# Altium schematic symbol library MyWatch.SCHLIB: 19 symbols
Pins are listed as number, name and electrical type; pins without a type are passive.

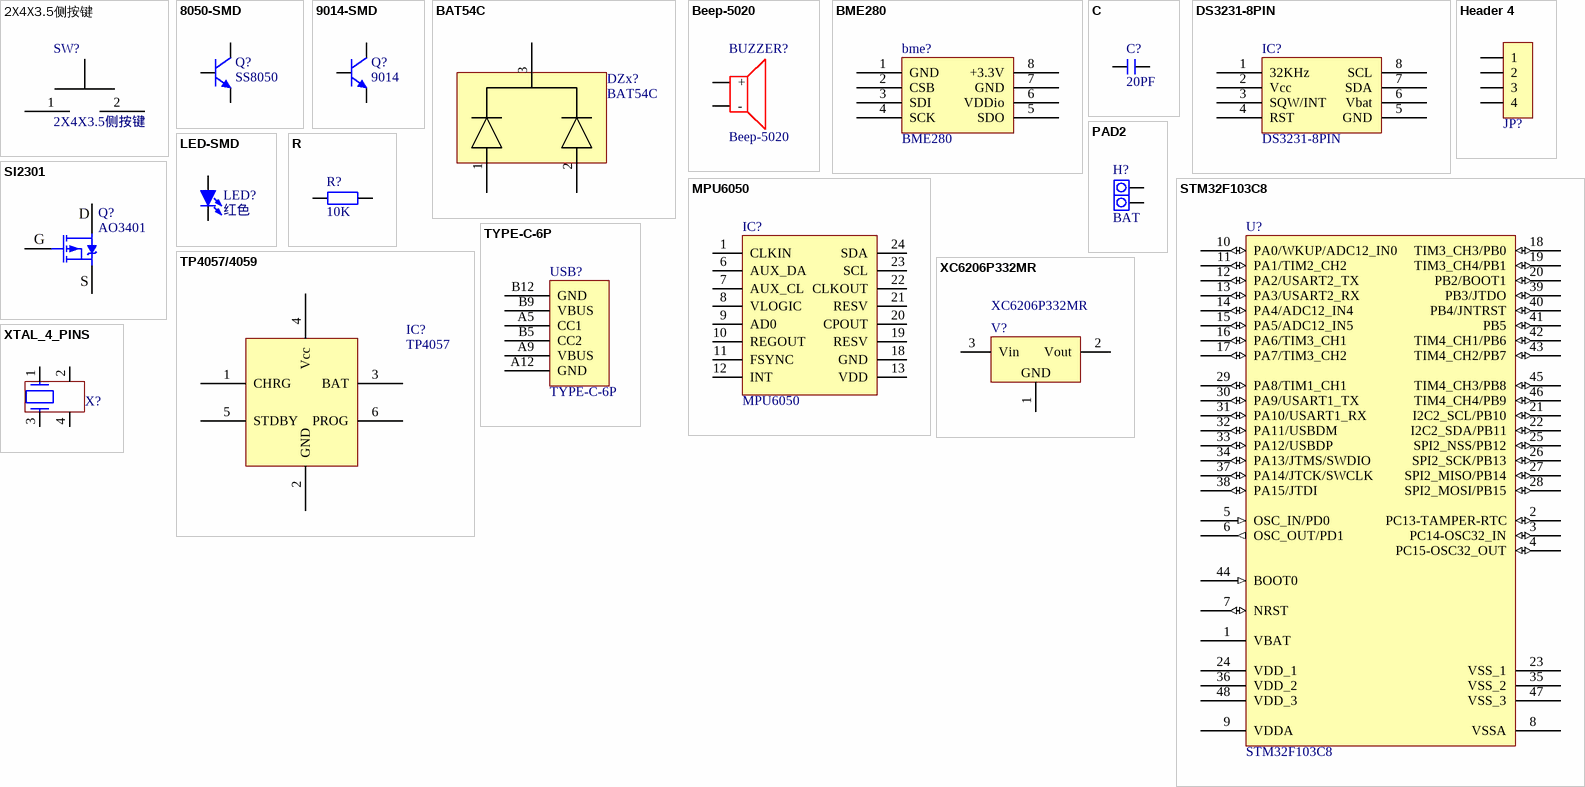
[diagram p0: symbols 2X4X3.5侧按键 to XTAL_4_PINS]

## 2X4X3.5侧按键
designator SW?
footprint 2X4X3.5贴片侧按开关 (1/10W贴片电阻)
pins: 1, 2

## 8050-SMD
designator Q?, comment SS8050
高频放大-NPN型; 版权归属: 源创客; 属性: 40V 1.5A 1W 100MHZ; BOM名称: 高频放大-NPN型; 学习资源: www.ooocke.com
footprint SOT23-3N (3x1.3x1mm(长宽高))
footprint SOT23-3L (3x1.3x1mm(长宽高))
footprint SOT23-3M (3x1.3x1mm(长宽高))
pins: 1 B, 2 E, 3 C

## 9014-SMD
designator Q?, comment 9014
低噪放大-NPN型; 版权归属: 源创客; 属性: 50V 0.1A 0.4W 150MHZ; BOM名称: 低噪放大-NPN型; 学习资源: www.ooocke.com
footprint SOT23-3N (3x1.3x1mm(长宽高))
footprint SOT23-3L (3x1.3x1mm(长宽高))
footprint SOT23-3M (3x1.3x1mm(长宽高))
pins: 1 B, 2 E, 3 C

## BAT54C
designator DZx?
双肖特基，共阴极
footprint SOT23-3N (3x1.3x1mm(长宽高))
pins: 1, 2, 3

## Beep-5020
designator BUZZER?
贴片蜂鸣器5020最小封装
footprint 5020BUZZER
pins: 1 +, 2 -

## BME280
designator bme?
气压，湿度，温度传感器
footprint BME280
pins: 1 GND, 2 CSB, 3 SDI, 4 SCK, 5 SDO, 6 VDDio, 7 GND, 8 +3.3V

## C
designator C?, comment 20PF
无极性贴片电容; 版权归属: 源创客; 材质: X7R; BOM名称: 无极性贴片电容; 学习资源: www.ooocke.com
footprint C0603 (Chip Capacitor, 2-Leads, Body 1.60x0.80mm, IPC Medium Density)
pins: 1, 2

## DS3231-8PIN
designator IC?
footprint SOP8_N (5*6*1.8mm（长宽高）)
pins: 1 32KHz, 2 Vcc, 3 SQW/INT, 4 RST, 5 GND, 6 Vbat, 7 SDA, 8 SCL

## Header 4
designator JP?, comment HDR-1X4  (value not drawn)
4P接插件; 版权归属: 源创客; BOM名称: 4P接插件; 学习资源: www.ooocke.com
footprint XH2.54-WI-4P (接插件，4P)
footprint XH2.54-LI-4P (接插件，4P)
footprint HDR2.54-LI-4P (排针，4脚)
footprint HDR2.54-M-LI-4P (排母，4脚)
footprint HDR2.54-WI-4P (弯脚排针，4脚)
footprint HDR2.54-WS-4P (4P卧式贴片排针2.54)
footprint HDR2.54-Y-LI-4P (圆孔排母，4脚)
footprint HDR2.54-M-WS-4P (4P卧式贴片排母2.54)
footprint KF2510-LI-4P (接插件/2A)
footprint XH2.54-WS-4P (长：15mm，宽：8mm，高：6.1mm)
footprint XH2.54-LS-4P (长：15mm，宽：6mm，高：8.3mm)
footprint KF2EDGK-2.54-LI-4P (长：12.06mm，宽：8.1mm，高：10.1mm)
footprint KF2EDGK-2.54-WI-4P (长：12.06mm，宽：10.1mm，高：8.1mm)
pins: 1, 2, 3, 4

## LED-SMD
designator LED?, comment 红色
贴片LED; 版权归属: 源创客; BOM名称: 贴片LED; 学习资源: www.ooocke.com
footprint D0603R (Chip LED, 2-Leads, Body 1.60x0.80mm, IPC Medium Density)
pins: 1 A, 2 K

## MPU6050
designator IC?
陀螺仪
footprint QFN24 4x4_M (24脚，长x宽x高：4x4x1mm，脚距：0.5mm)
footprint QFN24 4x4_N (24脚，长x宽x高：4x4x1mm，脚距：0.5mm)
pins: 1 CLKIN, 6 AUX_DA, 7 AUX_CL, 8 VLOGIC, 9 AD0, 10 REGOUT, 11 FSYNC, 12 INT, 13 VDD, 18 GND, 19 RESV, 20 CPOUT, 21 RESV, 22 CLKOUT, 23 SCL, 24 SDA

## PAD2
designator H?, comment BAT
引线焊盘; 版权归属: 源创客; BOM名称: 引线焊盘; 学习资源: www.ooocke.com
footprint PAD2-5.08
footprint PAD2-2.54 (引线焊盘)
pins: 1, 2

## R
designator R?, comment 10K
贴片电阻; 版权归属: 源创客; BOM名称: 贴片电阻; 学习资源: www.ooocke.com
footprint R0805 (Chip Resistor, 2-Leads, Body 2.00x1.20mm, IPC Medium Density)
pins: 1, 2

## SI2301
designator Q?, comment AO3401
P沟道场效应管; 版权归属: 源创客; BOM名称: P沟道场效应管; 学习资源: www.ooocke.com
footprint SOT23-3N (3x1.3x1mm(长宽高))
footprint SOT23-3L (3x1.3x1mm(长宽高))
footprint SOT23-3M (3x1.3x1mm(长宽高))
pins: 1 G, 2 S, 3 D

## STM32F103C8
designator U?
Flaah:64/RAM:20/IO:36; BOM名称: 32位STM单片机; 版权归属: 源创客; 学习资源: www.ooocke.com
footprint LQFP48 7X7_M (48脚，体宽7x7mm，脚距0.5mm)
pins: 1 VBAT (power), 2 PC13-TAMPER-RTC (io), 3 PC14-OSC32_IN (io), 4 PC15-OSC32_OUT (io), 5 OSC_IN/PD0 (in), 6 OSC_OUT/PD1 (out), 7 NRST (io), 8 VSSA (power), 9 VDDA (power), 10 PA0/WKUP/ADC12_IN0 (io), 11 PA1/TIM2_CH2 (io), 12 PA2/USART2_TX (io), 13 PA3/USART2_RX (io), 14 PA4/ADC12_IN4 (io), 15 PA5/ADC12_IN5 (io), 16 PA6/TIM3_CH1 (io), 17 PA7/TIM3_CH2 (io), 18 TIM3_CH3/PB0 (io), 19 TIM3_CH4/PB1 (io), 20 PB2/BOOT1 (io), 21 I2C2_SCL/PB10 (io), 22 I2C2_SDA/PB11 (io), 23 VSS_1 (power), 24 VDD_1 (power), 25 SPI2_NSS/PB12 (io), 26 SPI2_SCK/PB13 (io), 27 SPI2_MISO/PB14 (io), 28 SPI2_MOSI/PB15 (io), 29 PA8/TIM1_CH1 (io), 30 PA9/USART1_TX (io), 31 PA10/USART1_RX (io), 32 PA11/USBDM (io), 33 PA12/USBDP (io), 34 PA13/JTMS/SWDIO (io), 35 VSS_2 (power), 36 VDD_2 (power), 37 PA14/JTCK/SWCLK (io), 38 PA15/JTDI (io), 39 PB3/JTDO (io), 40 PB4/JNTRST (io), 41 PB5 (io), 42 TIM4_CH1/PB6 (io), 43 TIM4_CH2/PB7 (io), 44 BOOT0 (in), 45 TIM4_CH3/PB8 (io), 46 TIM4_CH4/PB9 (io), 47 VSS_3 (power), 48 VDD_3 (power)

## TP4057/4059
designator IC?, comment TP4057
500mA/600mA锂电池充电管理IC
footprint SOT23-6N (3x1.6x1.1mm(长宽高))
pins: 1 CHRG, 2 GND, 3 BAT, 4 Vcc, 5 STDBY, 6 PROG

## TYPE-C-6P
designator USB?
type-c-6p-沉板; BOM名称: USB-C型母接口; 版权归属: 源创客; 学习资源: www.ooocke.com
footprint TYPE-6P-沉板
pins: A5 CC1, A9 VBUS, A12 GND, B5 CC2, B9 VBUS, B12 GND

## XC6206P332MR
designator V?
低压差线性稳压芯片; 版权归属: 源创客; BOM名称: 低压差线性稳压芯片; 学习资源: www.ooocke.com
footprint SOT23-3N (3x1.3x1mm(长宽高))
footprint SOT23-3M (3x1.3x1mm(长宽高))
footprint SOT23-3L (3x1.3x1mm(长宽高))
pins: 1 GND, 2 Vout, 3 Vin

## XTAL_4_PINS
designator X?, comment NX2016SA 25MHz  (value not drawn)
Crystal 25MHz, 6pF, +-20ppm, 80ohms max, SMD; Internal_Part_Number: MCD-01364; Part_Type: Crystal_Osc; Manufacturer_Part_Number: NX2016SA 25MHz EXS00A-CS11321; Manufacturer: NDK; BMS_Part_Number: 9157044; Provided_By: SUBCO; ECCN_US: EAR99; ECCN_EU: NEC; Value: NX2016SA 25MHz; Status: Released; Package: NX2016SA; ComponentLink1Description: Datasheet; ComponentLink1URL: http://tunmcdsvn.tun.st.com/Component_Datasheet_Library/Trunk/Crystal_Osc/NDK_NX2016SA 25MHz EXS00A-CS11321 (EXS10B-28187); Order_Code_Digikey: 644-1367
footprint 3225-4N (SMD, 4-Leads, Body 3.2x2.5mm)
pins: 1, 2, 3, 4